# Altium footprint library 8通道刺激仪.PcbLib: 39 footprints (part 1 of 3)
Each footprint in its own frame and in the unit in brackets; x right, y up, seen from the top. Pads: shape width x height; smd on the part's side, far side on the other; paste and mask are expansions set on the pad; w line width, h text height; cw(c..) or ccw(c..) is an arc to the next point about the centre after c.
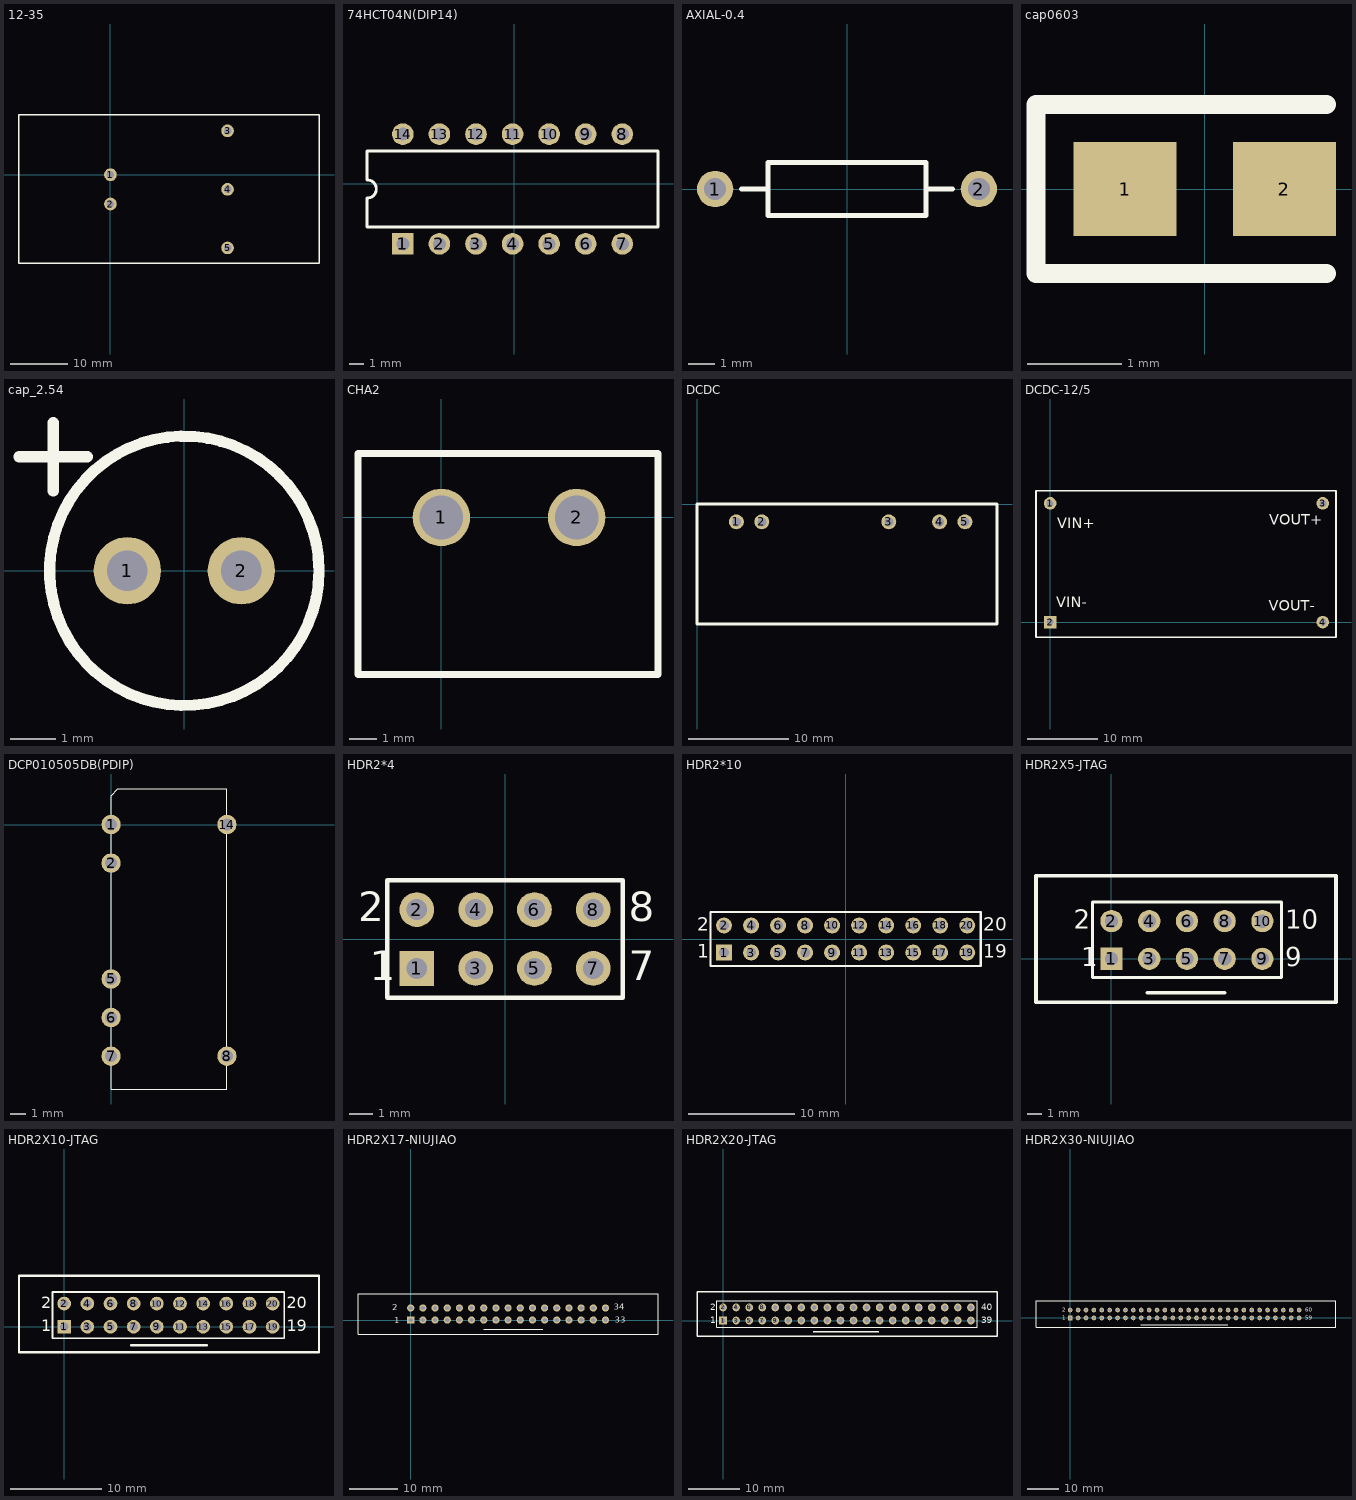
[diagram p0: the footprints below, top view; thin cyan lines are the x and y axes]

## 12-35 [mm]
pads (5):
  round 2.2 hole 1.3: 1(0,0) 2(0,-5.08) 3(20.32,7.62) 4(20.32,-2.54) 5(20.32,-12.7)
Top Overlay:
  lines w0.254: -15.875,-15.367 -15.875,10.414 36.195,10.414 36.195,-15.367 -15.875,-15.367

## 74HCT04N(DIP14) [mm]
pads (14):
  rect 1.5x1.5 hole 0.9: 1(-7.747,-4.191)
  round 1.5 hole 0.9: 2(-5.207,-4.191) 3(-2.667,-4.191) 4(-0.127,-4.191) 5(2.413,-4.191) 6(4.953,-4.191) 7(7.493,-4.191) 8(7.493,3.429) 9(4.953,3.429) 10(2.413,3.429) 11(-0.127,3.429) 12(-2.667,3.429) 13(-5.207,3.429) 14(-7.747,3.429)
Top Overlay:
  lines w0.2: -10.227,-3.031 -10.227,-1.016 ccw(c-10.227,-0.381) -10.227,0.254 -10.227,2.269 9.973,2.269 9.973,-3.031 -10.227,-3.031

## AXIAL-0.4 [mm] "Axial Device, Thru-Hole; 2 Leads; 0.4 in Pin Spacing"
height 2.032
pads (2):
  round 1.4 hole 0.85: 1(-5.08,0) 2(5.08,0)
Top Overlay:
  lines w0.2: -4.064,0 -3.048,0 ; 3.048,0 4.064,0 ; -3.048,-1.016 -3.048,1.016 3.048,1.016 3.048,-1.016 -3.048,-1.016

## cap0603 [mm]
pads (2):
  rect 1.1x1 smd: 1(-0.85,0) 2(0.85,0)
Top Overlay:
  lines w0.2: 1.3,-0.9 -1.8,-0.9 -1.8,0.9 1.3,0.9

## cap_2.54 [mm] "Capacitor (Radial); 2 Leads"
pads (2):
  round 1.5 hole 0.9: 1(-1.27,0) 2(1.27,0)
Top Overlay:
  circle w0.25: c0,0 r3
  lines w0.254: -3.683,2.54 -2.159,2.54 ; -2.921,1.778 -2.921,3.302
Mechanical 1:
  circle w0.02: c0,0 r3

## CHA2 [mm]
pads (2):
  round 2.1 hole 1.6: 1(0,0) 2(4.95,0)
Top Overlay:
  lines w0.254: 7.895,-5.736 -3.048,-5.736 -3.048,2.337 7.925,2.337 7.925,-5.74

## DCDC [mm]
pads (5):
  round 1.5 hole 0.9: 1(3.937,-1.778) 2(6.477,-1.778) 3(19.177,-1.778) 4(24.257,-1.778) 5(26.797,-1.778)
Top Overlay:
  lines w0.254: 0,-12 30,-12 30,0 0,0 0,-12

## DCDC-12/5 [mm]
pads (4):
  round 1.8 hole 1: 1(0,17) 3(39,17) 4(39,0)
  rect 1.8x1.8 hole 1: 2(0,0)
Top Overlay:
  lines w0.254: -2.032,18.796 -2.032,-2.159 40.894,-2.159 40.894,18.796 -1.905,18.796
  text "VIN+" at 1.016,13.462 h1.52
  text "VIN-" at 0.889,2.159 h1.52
  text "VOUT-" at 31.242,1.651 h1.52
  text "VOUT+" at 31.369,13.97 h1.52

## DCP010505DB(PDIP) [mil]
pads (7):
  round 50 / inner round 0 / far side round 50 hole 31: 1(0,0) 2(0,-100) 5(0,-400) 6(0,-500) 7(0,-600) 8(300,-600) 14(300,0)
Top Overlay:
  lines w0.98: 0,-685 0,70 0,75 16.99,91.99
  lines w1: 0,-685 300,-685 300,91.99 16.99,91.99

## HDR2*4 [mm]
pads (8):
  rect 1.5x1.5 hole 0.9: 1(-3.81,-1.27)
  round 1.5 hole 0.9: 2(-3.81,1.27) 3(-1.27,-1.27) 4(-1.27,1.27) 5(1.27,-1.27) 6(1.27,1.27) 7(3.81,-1.27) 8(3.81,1.27)
Top Overlay:
  lines w0.2: -5.08,-2.54 5.08,-2.54 5.08,2.54 -5.08,2.54 -5.08,-2.54
  text "2" at -6.35,0.762 h1.27
  text "1" at -5.842,-1.778 h1.27
  text "7" at 5.334,-1.778 h1.27
  text "8" at 5.334,0.762 h1.27

## HDR2*10 [mm]
pads (20):
  rect 1.5x1.5 hole 0.9: 1(-11.43,-1.27)
  round 1.5 hole 0.9: 2(-11.43,1.27) 3(-8.89,-1.27) 4(-8.89,1.27) 5(-6.35,-1.27) 6(-6.35,1.27) 7(-3.81,-1.27) 8(-3.81,1.27) 9(-1.27,-1.27) 10(-1.27,1.27) 11(1.27,-1.27) 12(1.27,1.27) 13(3.81,-1.27) 14(3.81,1.27) 15(6.35,-1.27) 16(6.35,1.27) 17(8.89,-1.27) 18(8.89,1.27) 19(11.43,-1.27) 20(11.43,1.27)
Top Overlay:
  lines w0.2: -12.7,-2.54 -12.7,2.54 -10.795,2.54 12.7,2.54 12.7,-2.54 -10.795,-2.54 -12.7,-2.54
  text "2" at -13.97,0.762 h1.27
  text "1" at -13.97,-1.778 h1.27
  text "19" at 12.954,-1.778 h1.27
  text "20" at 12.954,0.762 h1.27

## HDR2X5-JTAG [mm]
pads (10):
  rect 1.5x1.5 hole 0.9: 1(0,0)
  round 1.5 hole 0.9: 2(0,2.54) 3(2.54,0) 4(2.54,2.54) 5(5.08,0) 6(5.08,2.54) 7(7.62,0) 8(7.62,2.54) 9(10.16,0) 10(10.16,2.54)
Top Overlay:
  lines w0.2: -1.27,-1.27 11.43,-1.27 11.43,3.81 -1.27,3.81 -1.27,-1.27
  lines w0.254: -5.08,-0.635 -5.08,5.588 15.113,5.588 15.113,-2.921 -4.953,-2.921 -5.08,-2.921 -5.08,-0.381 ; 2.413,-2.286 7.62,-2.286
  text "10" at 11.684,2.032 h1.27
  text "9" at 11.684,-0.508 h1.27
  text "1" at -2.032,-0.508 h1.27
  text "2" at -2.54,2.032 h1.27

## HDR2X10-JTAG [mm]
pads (20):
  rect 1.5x1.5 hole 0.9: 1(0,0)
  round 1.5 hole 0.9: 2(0,2.54) 3(2.54,0) 4(2.54,2.54) 5(5.08,0) 6(5.08,2.54) 7(7.62,0) 8(7.62,2.54) 9(10.16,0) 10(10.16,2.54) 11(12.7,0) 12(12.7,2.54) 13(15.24,0) 14(15.24,2.54) 15(17.78,0) 16(17.78,2.54) 17(20.32,0) 18(20.32,2.54) 19(22.86,0) 20(22.86,2.54)
Top Overlay:
  lines w0.2: -1.27,-1.27 0.635,-1.27 24.13,-1.27 24.13,3.81 0.635,3.81 -1.27,3.81 -1.27,-1.27
  lines w0.254: 7.366,-2.032 15.621,-2.032 ; -4.953,-2.794 -4.953,0 -4.953,5.334 -4.953,5.588 27.94,5.588 27.94,-2.794 -4.826,-2.794 -4.953,-2.794
  text "20" at 24.384,2.032 h1.27
  text "19" at 24.384,-0.508 h1.27
  text "1" at -2.54,-0.508 h1.27
  text "2" at -2.54,2.032 h1.27

## HDR2X17-NIUJIAO [mm]
pads (34):
  rect 1.5x1.5 hole 0.9: 1(0,0)
  round 1.5 hole 0.9: 2(0,2.54) 3(2.54,0) 4(2.54,2.54) 5(5.08,0) 6(5.08,2.54) 7(7.62,0) 8(7.62,2.54) 9(10.16,0) 10(10.16,2.54) 11(12.7,0) 12(12.7,2.54) 13(15.24,0) 14(15.24,2.54) 15(17.78,0) 16(17.78,2.54) 17(20.32,0) 18(20.32,2.54) 19(22.86,0) 20(22.86,2.54) 21(25.4,0) 22(25.4,2.54) 23(27.94,0) 24(27.94,2.54) 25(30.48,0) 26(30.48,2.54) 27(33.02,0) 28(33.02,2.54) 29(35.56,0) 30(35.56,2.54) 31(38.1,0) 32(38.1,2.54) 33(40.64,0) 34(40.64,2.54)
Top Overlay:
  lines w0.2: -11,-2.98 51.6,-2.98 51.6,5.52 -11,5.52 -11,-2.98
  lines w0.254: 15.24,-1.905 27.559,-1.905
  text "34" at 42.418,2.159 h1.27
  text "33" at 42.545,-0.508 h1.27
  text "1" at -3.429,-0.635 h1.27
  text "2" at -3.81,2.032 h1.27

## HDR2X20-JTAG [mm]
pads (40):
  rect 1.5x1.5 hole 0.9: 1(0,0)
  round 1.5 hole 0.9: 2(0,2.54) 3(2.54,0) 4(2.54,2.54) 5(5.08,0) 6(5.08,2.54) 7(7.62,0) 8(7.62,2.54) 9(10.16,0) 10(10.16,2.54) 11(12.7,0) 12(12.7,2.54) 13(15.24,0) 14(15.24,2.54) 15(17.78,0) 16(17.78,2.54) 17(20.32,0) 18(20.32,2.54) 19(22.86,0) 20(22.86,2.54) 21(25.4,0) 22(25.4,2.54) 23(27.94,0) 24(27.94,2.54) 25(30.48,0) 26(30.48,2.54) 27(33.02,0) 28(33.02,2.54) 29(35.56,0) 30(35.56,2.54) 31(38.1,0) 32(38.1,2.54) 33(40.64,0) 34(40.64,2.54) 35(43.18,0) 36(43.18,2.54) 37(45.72,0) 38(45.72,2.54) 39(48.26,0) 40(48.26,2.54)
Top Overlay:
  lines w0.2: -1.27,-1.27 49.53,-1.27 49.53,3.81 -1.27,3.81 -1.27,-1.27
  lines w0.254: 17.526,-2.159 30.353,-2.159 ; -5.08,-3.048 53.34,-3.048 53.34,5.588 -5.08,5.588 -5.08,0 -5.08,-3.048
  text "1" at -2.54,-0.508 h1.27
  text "2" at -2.54,2.032 h1.27
  text "40" at 50.292,2.032 h1.27
  text "39" at 50.292,-0.508 h1.27

## HDR2X30-NIUJIAO [mm]
height 21
pads (60):
  rect 1.5x1.5 hole 0.9: 1(0,0)
  round 1.5 hole 0.9: 2(0,2.54) 3(2.54,0) 4(2.54,2.54) 5(5.08,0) 6(5.08,2.54) 7(7.62,0) 8(7.62,2.54) 9(10.16,0) 10(10.16,2.54) 11(12.7,0) 12(12.7,2.54) 13(15.24,0) 14(15.24,2.54) 15(17.78,0) 16(17.78,2.54) 17(20.32,0) 18(20.32,2.54) 19(22.86,0) 20(22.86,2.54) 21(25.4,0) 22(25.4,2.54) 23(27.94,0) 24(27.94,2.54) 25(30.48,0) 26(30.48,2.54) 27(33.02,0) 28(33.02,2.54) 29(35.56,0) 30(35.56,2.54) 31(38.1,0) 32(38.1,2.54) 33(40.64,0) 34(40.64,2.54) 35(43.18,0) 36(43.18,2.54) 37(45.72,0) 38(45.72,2.54) 39(48.26,0) 40(48.26,2.54) 41(50.8,0) 42(50.8,2.54) 43(53.34,0) 44(53.34,2.54) 45(55.88,0) 46(55.88,2.54) 47(58.42,0) 48(58.42,2.54) 49(60.96,0) 50(60.96,2.54) 51(63.5,0) 52(63.5,2.54) 53(66.04,0) 54(66.04,2.54) 55(68.58,0) 56(68.58,2.54) 57(71.12,0) 58(71.12,2.54) 59(73.66,0) 60(73.66,2.54)
Top Overlay:
  lines w0.2: -11,-2.98 85.53,-2.98 85.53,5.52 -11,5.52 -11,-2.98
  lines w0.254: 22.733,-2.159 50.673,-2.159
  text "60" at 75.692,2.032 h1.27
  text "59" at 75.692,-0.508 h1.27
  text "1" at -2.54,-0.508 h1.27
  text "2" at -2.54,2.032 h1.27